# Altium schematic symbol library TLV271SN2T1.Schlib: 1 symbol
Pins are listed as number, name and electrical type; pins without a type are passive.

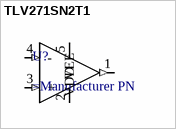
[diagram p0: symbol TLV271SN2T1]

## TLV271SN2T1
designator U?
ON Semi TLV271 (SN2T1 pinout)
pins: 1 (out), 2 VEE (power), 3 + (in), 4 - (in), 5 VDD